# Altium schematic symbol library AG.Generic.SchLib: 30 symbols
Pins are listed as number, name and electrical type; pins without a type are passive.

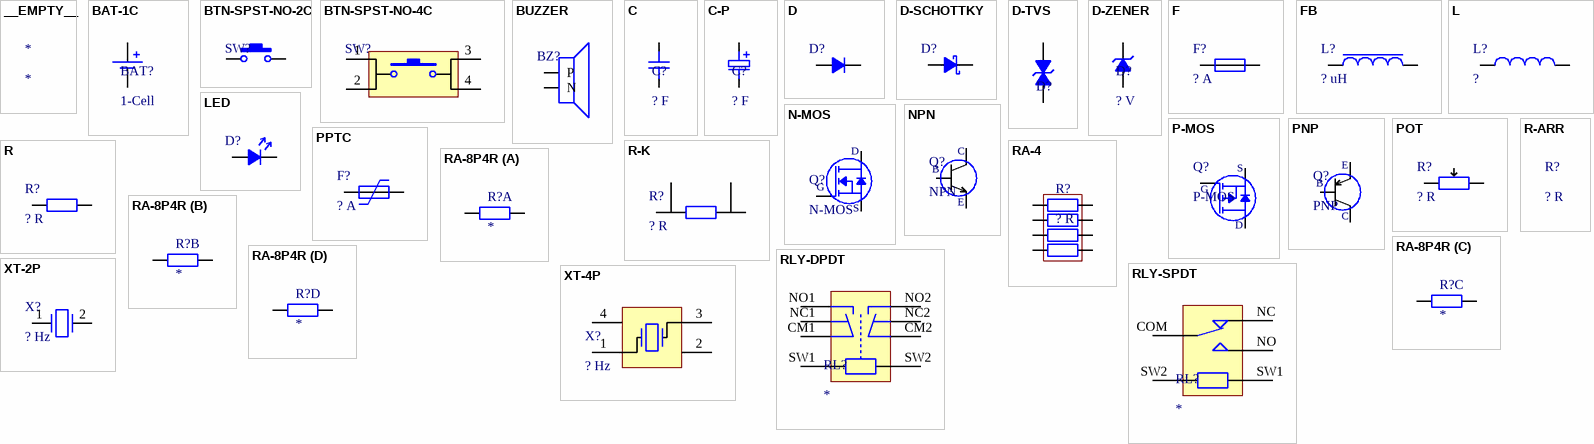
[diagram p0: symbols __EMPTY__ to XT-4P]

## __EMPTY__
designator *
Template Symbol; Supplier Link: http://

## BAT-1C
designator BAT?, comment 1-Cell
Single Cell Battery; Nominal Voltage: ?; Supplier: DigiKey; Supplier Part No: BC501SM-ND; Supplier Link: https://www.digikey.com/en/products/detail/mpd-memory-protection-devices/BC501SM/2439260; Mounting Type: SMT
footprint BC501SM (BATTERY HOLDER COIN 12MM SMD)
pins: N (power), P (power)
1 alternate drawing of the same symbol

## BTN-SPST-NO-2C
designator SW?
Tactile Switch SPST-NO; Manufacturer: Generic Brand; Category: Tactile Button; Mounting Technology: THT; Supplier Link: http://
pins: 1, 2

## BTN-SPST-NO-4C
designator SW?
Tactile Switch SPST-NO; Manufacturer: Generic Brand; Category: Tactile Button; Mounting Technology: THT; Supplier Link: http://
footprint TE_CONN_1825910-6-4 (Switch Push Button OFF (ON) SPST Round Button 0.05A 24VDC Momentary Contact PC Pins Thru-Hole)
footprint SW_TL3305AF160QG
pins: 1, 2, 3, 4

## BUZZER
designator BZ?  (value not drawn)
Buzzer; Manufacturer: Generic Brand; Max Voltage: ? V; Resonance Frequency: ? Hz; Category: Buzzer; Mounting Technology: THT; Supplier Link: http://
footprint HEADER-2.54-2P1 (Pin Header Single Row 2 Positions Pitch 2.54 mm); pin to pad N>2 P>1
pins: N (power), P (power)

## C
designator C?, comment ? F
Capacitor; Manufacturer: Generic Brand; Max Voltage: ? V; Value: ? F; Tolerance: ?; Mounting Technology: SMT; Tag: *; Manufacturer Part No: *; Supplier: *; Supplier Link: http://; Supplier Part No: *; Category: Capacitor
footprint 0603C_RF_M (Chip Capacitor 0603 Reflow Medium)
footprint 0805C_RF_M (Chip Capacitor 0805 Reflow Medium)
footprint 1206C_RF_M (Chip Capacitor 1206 Reflow Medium)
footprint 0805C_RF_SMP (Chip Capacitor 0805 Reflow Smaller Pads)
pins: 1, 2
3 alternate drawings of the same symbol

## C-P
designator C?, comment ? F
Polarized Capacitor; Manufacturer: Generic Brand; Max Voltage: ? V; Value: ? F; Mounting Technology: SMT; Tolerance: ?; Tag: *; Manufacturer Part No: *; Supplier: *; Supplier Link: http://; Supplier Part No: *; Category: Capacitor
footprint C_EL_B_4MM_RF_M (Electrolytic Capacitor SMD Size B 4mm OD)
footprint DCS-SUPERCAP-V (KORCHIP Super Capacitor V-Type Through-Hole)
pins: N (power), P (power)
1 alternate drawing of the same symbol

## D
designator D?
Diode (Rectifier); Manufacturer: Generic Brand; Max Forward Voltage: ? V; Power Rating: ? W; Manufacturer Part No: *; Supplier: *; Supplier Link: http://; Supplier Part No: *; Mounting Technology: SMT; Category: Diode
footprint NXP_SOD-323_RF_M (SOD-232 NXP PESD5V0S1BA Reflow)
footprint ONSEMI_DO214AC_RF_M
pins: A, C
1 alternate drawing of the same symbol

## D-SCHOTTKY
designator D?, comment Schottky  (value not drawn)
Schottky Diode; Manufacturer: Generic Brand; Max Forward Voltage: ? V; Power Rating: ? W; Manufacturer Part No: *; Supplier: *; Supplier Link: http://; Supplier Part No: *; Mounting Technology: SMT; Category: Diode
footprint ONSEMI_DO214AB_RF_M (Diode DO-214AB (SMC))
pins: A, C
1 alternate drawing of the same symbol

## D-TVS
designator D?, comment TVS  (value not drawn)
TVS Diode Bidirectional; Manufacturer: Generic Brand; Power Rating: ? W; Manufacturer Part No: *; Supplier: *; Supplier Link: http://; Supplier Part No: *; Mounting Technology: SMT; Category: Diode
footprint NXP_SOD-323_RF_M (SOD-232 NXP PESD5V0S1BA Reflow)
pins: A, C
1 alternate drawing of the same symbol

## D-ZENER
designator D?, comment ? V
Zener Diode; Manufacturer: Generic Brand; Power Rating: ? W; Manufacturer Part No: *; Supplier: *; Supplier Link: http://; Supplier Part No: *; Mounting Technology: SMT; Breakdown Voltage: ? V; Category: Diode
pins: A, C
1 alternate drawing of the same symbol

## F
designator F?, comment ? A
Fuse; Manufacturer: Generic Brand; Category: Fuse; Mounting Technology: SMT; Supplier Link: http://; Hold Current: ? A
pins: 1, 2

## FB
designator L?, comment ? uH
Ferrite Bead; Value: ? uH; Mounting Technology: SMT; Category: Inductance/Fixed
footprint 0805C_RF_M (Chip Capacitor 0805 Reflow Medium)
footprint 0603C_RF_M (Chip Capacitor 0603 Reflow Medium)
pins: 1, 2

## L
designator L?, comment ?
Inductor; Value: ?; Mounting Technology: SMT; Category: Inductance/Fixed
footprint CDEP147 (SMD Power Inductor 14.9x14.9x8-mm Reflow)
footprint TDK_VLS6045EX (TDK VLS6045EX Series Fixed Inductor SMD 6.00x6.30mm)
pins: 1, 2

## LED
designator D?, comment Unspecified  (value not drawn)
LED; Manufacturer: Generic Brand; Forward Voltage Drop: ? V; Emitting Color: Unspecified; Manufacturer Part No: *; Supplier: *; Supplier Link: http://; Supplier Part No: *; Category: Diode; Mounting Technology: SMT
footprint 0603LED_RF_M (Chip LED 0603 Reflow Medium)
footprint 0805LED_RF_M (Chip LED 0805 Reflow Medium)
footprint 1206LED_RF_M (Chip LED 1206 Reflow Medium)
footprint LED_R-3MM_TH (LED Radial 3mm Through Hole)
pins: A, C
1 alternate drawing of the same symbol

## N-MOS
designator Q?
MOSFET N-Channel; Manufacturer: Generic Brand; IGS: ? A; VDS: ? V; Power Rating: ? W; Manufacturer Part No: *; Supplier: *; Supplier Link: http://; Supplier Part No: *; Mounting Technology: SMT; Category: Transistor; VGS: ? V
pins: D Drain, G Gate, S Source
1 alternate drawing of the same symbol

## NPN
designator Q?
Bipolar Transistor NPN; Manufacturer: Generic Brand; IGS: ? A; VDS: ? V; Power Rating: ? W; Manufacturer Part No: *; Supplier: *; Supplier Link: http://; Supplier Part No: *; Mounting Technology: SMT; Category: Transistor; VGS: ? V
pins: B Base, C Collector, E Emmiter

## P-MOS
designator Q?
MOSFET P-Channel; Manufacturer: Generic Brand; IGS: ? A; VDS: ? V; Power Rating: ? W; Manufacturer Part No: *; Supplier: *; Supplier Link: http://; Supplier Part No: *; Mounting Technology: SMT; Category: Transistor; VGS: ? V
pins: D Drain, G Gate, S Source

## PNP
designator Q?
Bipolar Transistor PNP; Manufacturer: Generic Brand; IGS: ? A; VDS: ? V; Power Rating: ? W; Manufacturer Part No: *; Supplier: *; Supplier Link: http://; Supplier Part No: *; Mounting Technology: SMT; Category: Transistor; VGS: ? V
footprint SOT-23-3; pin to pad B>1 C>3 E>2
pins: B Base, C Collector, E Emmiter

## POT
designator R?, comment ? R
Potentiometer; Value: ? R; Tolerance: ?
pins: A, B, W Wiper

## PPTC
designator F?, comment ? A
Resettable Fuse; Manufacturer: Generic Brand; Max Voltage: ? V; Hold Current: ? A; Category: Fuse; Mounting Technology: SMT; Supplier Link: http://
footprint BOURNS_MF-MSMF110/16-2_RF_H (PTC RESET FUSE SMD 1812)
footprint PTC_0805_RF_M (Resettable Fuse SMD 0805 Reflow Medium Density)
pins: 1, 2

## R
designator R?, comment ? R
Resistor; Manufacturer: Generic Brand; Power Rating: ? W; Max Voltage: ? V; Value: ? R; Tolerance: ?; Supplier Link: http://; Category: Resistor; Mounting Technology: SMT
footprint 0603R_RF_M (Chip Resistor 0603 Reflow Medium)
footprint 0805R_RF_M (Chip Resistor 0805 Reflow Medium)
footprint 1206R_RF_M (Chip Resistor 1206 Reflow Medium)
footprint 2512R_RF_M (Chip Resistor 2512 Reflow Medium)
footprint 0805R_RF_SMP (Chip Resistor 0805 Reflow Smaller Pads)
footprint 0805R_SHRT-10MIL_RF_M (Chip Resistor 0805 Reflow Medium Short Between Pads 10 mil)
footprint R0402_RF_M (Resistor SMD 0402 Reflow Medium Density)
footprint R0402_RF_H (Resistor SMD 0402 Reflow High Density)
footprint R0603_RF_M (Resistor SMD 0603 Reflow Medium Density)
footprint R0805_RF_M (Resistor SMD 0805 Reflow Medium Density)
pins: 1, 2
1 alternate drawing of the same symbol

## R-ARR
designator R?, comment ? R
Resistor Array (8 Leads 4 Resistors); Manufacturer: Generic Brand; Power Rating: ? W; Value: ? R; Tag: *; Tolerance: ?; Mounting Technology: SMT; Manufacturer Part No: *; Supplier: *; Supplier Link: http://; Supplier Part No: *; Category: Resistor
1 alternate drawing of the same symbol

## R-K
designator R?, comment ? R
Shunt Resistor w/ Kelvin Connection; Manufacturer: Generic Brand; Power Rating: ? W; Max Voltage: ? V; Value: ? R; Tolerance: ?; Supplier Link: http://; Category: Resistor; Mounting Technology: SMT
footprint 2512R_RF_M_KELVIN (Chip Resistor 2512 Reflow Medium)
pins: 1, 2, K1, K2

## RA-4
designator R?, comment ? R
Resistor Array 4x Isolated; Value: ? R
footprint R0603_ARR_4R_CNVX_RF_H (Resistor Array SMD 0603x4 Single 1206 ACAS Convex Lead Reflow High Density)
pins: 1, 2, 3, 4, 5, 6, 7, 8

## RA-8P4R
designator R?
Resistor Array (8 Leads 4 Resistors); Value: ? R; Mounting Type: SMT; Category: Passives/Resistors
footprint 0603R_ARR_RF_M
footprint R0603_ARR_4R_CNVX_RF_H (Resistor Array SMD 0603x4 Single 1206 ACAS Convex Lead Reflow High Density)
footprint R0603_ARR_4R_CNVX_RF_M (Resistor Array SMD 0603x4 Single 1206 ACAS Convex Lead Reflow Medium Density)
part A pins: 1, 8
part B pins: 2, 7
part C pins: 3, 6
part D pins: 4, 5

## RLY-DPDT
designator RL?
Relay DPDT
pins: CM1, CM2, NC1, NC2, NO1, NO2, SW1, SW2

## RLY-SPDT
designator RL?
Relay SPDT
pins: COM, NC, NO, SW1, SW2

## XT-2P
designator X?, comment ? Hz
Crystal Resonator (2 Leads); Manufacturer: Generic Brand; Tolerance: ? ppm; Mounting Technology: SMT; Supplier Link: http://; Category: Crystal; Value: ? Hz
footprint XTAL_3215 (Crystal SMD 3.2x1.5mm 2-Flat Leads)
pins: 1, 2
1 alternate drawing of the same symbol

## XT-4P
designator X?, comment ? Hz
Crystal Resonator (4 Leads); Manufacturer: Generic Brand; Tolerance: ? ppm; Mounting Technology: SMT; Supplier Link: http://; Category: Crystal; Value: ? Hz
footprint XTAL_5032
footprint XTAL_3225 (ECX-32: 4-SMD No Lead (3.20mm x 2.50mm))
pins: 1 X1, 2 GND, 3 X2, 4 GND